# EAGLE library part XF2M-24 (library ZHAW_BA)
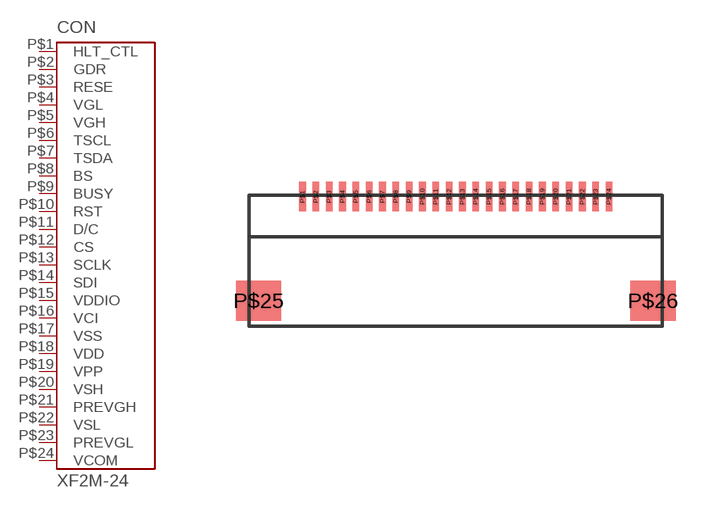
[diagram p20: symbol with the pads of XF2M-24; footprint XF2M-24]

Designator prefix CON

## XF2M-24  [XF2M-24]
P$1  HLT_CTL  pas
P$2  GDR  pas
P$3  RESE  pas
P$4  VGL  pas
P$5  VGH  pas
P$6  TSCL  pas
P$7  TSDA  pas
P$8  BS  pas
P$9  BUSY  pas
P$10  RST  pas
P$11  D/C  pas
P$12  CS  pas
P$13  SCLK  pas
P$14  SDI  pas
P$15  VDDIO  pas
P$16  VCI  pas
P$17  VSS  pas
P$18  VDD  pas
P$19  VPP  pas
P$20  VSH  pas
P$21  PREVGH  pas
P$22  VSL  pas
P$23  PREVGL  pas
P$24  VCOM  pas

## Footprint XF2M-24 (pad centres in mm)
smd 0.25 x 1.1: P$1 0,0; P$2 0.5,0; P$3 1,0; P$4 1.5,0; P$5 2,0; P$6 2.5,0; P$7 3,0; P$8 3.5,0; P$9 4,0; P$10 4.5,0; P$11 5,0; P$12 5.5,0; P$13 6,0; P$14 6.5,0; P$15 7,0; P$16 7.5,0; P$17 8,0; P$18 8.5,0; P$19 9,0; P$20 9.5,0; P$21 10,0; P$22 10.5,0; P$23 11,0; P$24 11.5,0
smd 1.7 x 1.5: P$25 -1.65,-3.9; P$26 13.15,-3.9